# EAGLE library part IDG-300 (library m-pad)
InvenSense's IDG-300 Integrated Dual-Axis Gyro Description: The IDG-300 is an integrated dual-axis angular rate sensor (gyroscope). It uses InvenSense?s proprietary and patented MEMS technology with vertically driven, vibrating masses to make a functionally complete, lowcost, dual-axis angular rate sensor. All required electronics are integrated onto a single chip with the sensor. The IDG-300 gyro uses two sensor elements with novel vibrating dual-mass bulk silicon configurations that sense the rate of rotation about the X- and Y-axis (in-plane sensing). This results in a unique, integrated dual-axis gyro with guaranteed-by-design vibration rejection and high cross-axis isolation. It is specifically designed for demanding consumer applications requiring low cost, small size and high performance. The IDG-300 gyro includes integrated electronics necessary for application-ready functionality. It incorporates X- and Y-axis low-pass filters and an EEPROM for on-chip factory calibration of the sensor. Factory trimmed scale factors eliminate the need for external active components and end-user calibration. This product is lead-free and Green Compliant. Features: Integrated X- and Y-axis gyro on a single chip Factory trimmed full scale range of ±500°/sec Integrated low-pass filters Superior vibration rejection over a wide frequency range High cross-axis isolation by design 3V single supply operation 5000 g shock tolerance RoHS compliant (completely lead free) 6 x 6 x 1.5mm QFN package Applications: Inertial measurement units (IMUs) Handheld GPS navigation devices Radio controlled helicopters Toys and game consoles Robotic and power tools Antenna positioning Remote control Please send any comments to: messi@users.sourceforge.net
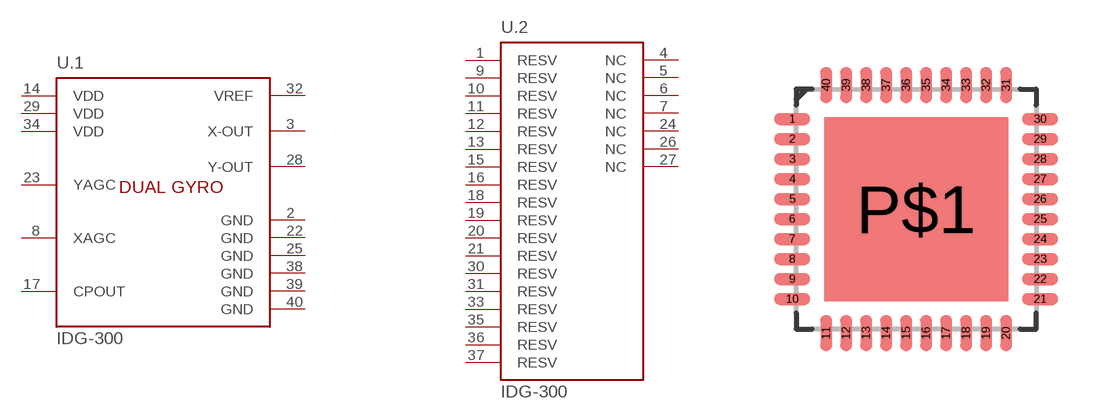
[diagram p160: symbol with the pads of QFN-40; footprint QFN-40]

Designator prefix U; gates .1=IDG-300 .2=IDG-300-NC

## IDG-300  [QFN-40]
1  .2:RESV  pas
2  .1:GND  pwr
3  .1:X-OUT  out
4  .2:NC  nc
5  .2:NC  nc
6  .2:NC  nc
7  .2:NC  nc
8  .1:XAGC  in
9  .2:RESV  pas
10  .2:RESV  pas
11  .2:RESV  pas
12  .2:RESV  pas
13  .2:RESV  pas
14  .1:VDD  pwr
15  .2:RESV  pas
16  .2:RESV  pas
17  .1:CPOUT  out
18  .2:RESV  pas
19  .2:RESV  pas
20  .2:RESV  pas
21  .2:RESV  pas
22  .1:GND  pwr
23  .1:YAGC  in
24  .2:NC  nc
25  .1:GND  pwr
26  .2:NC  nc
27  .2:NC  nc
28  .1:Y-OUT  out
29  .1:VDD  pwr
30  .2:RESV  pas
31  .2:RESV  pas
32  .1:VREF  in
33  .2:RESV  pas
34  .1:VDD  pwr
35  .2:RESV  pas
36  .2:RESV  pas
37  .2:RESV  pas
38  .1:GND  pwr
39  .1:GND  pwr
40  .1:GND  pwr

## Footprint QFN-40 (pad centres in mm)
QFN-40 package use in InvenSense IDG-300
smd 0.9 x 0.3: 1 -3.1,2.25; 2 -3.1,1.75; 3 -3.1,1.25; 4 -3.1,0.75; 5 -3.1,0.25; 6 -3.1,-0.25; 7 -3.1,-0.75; 8 -3.1,-1.25; 9 -3.1,-1.75; 10 -3.1,-2.25; 21 3.1,-2.25; 22 3.1,-1.75; 23 3.1,-1.25; 24 3.1,-0.75; 25 3.1,-0.25; 26 3.1,0.25; 27 3.1,0.75; 28 3.1,1.25; 29 3.1,1.75; 30 3.1,2.25
smd 0.3 x 0.9: 11 -2.25,-3.1; 12 -1.75,-3.1; 13 -1.25,-3.1; 14 -0.75,-3.1; 15 -0.25,-3.1; 16 0.25,-3.1; 17 0.75,-3.1; 18 1.25,-3.1; 19 1.75,-3.1; 20 2.25,-3.1; 31 2.25,3.1; 32 1.75,3.1; 33 1.25,3.1; 34 0.75,3.1; 35 0.25,3.1; 36 -0.25,3.1; 37 -0.75,3.1; 38 -1.25,3.1; 39 -1.75,3.1; 40 -2.25,3.1
smd 4.6 x 4.6: P$1 0,0